# Altium schematic symbol library MiniRoverShield.SchLib: 15 symbols
Pins are listed as number, name and electrical type; pins without a type are passive.

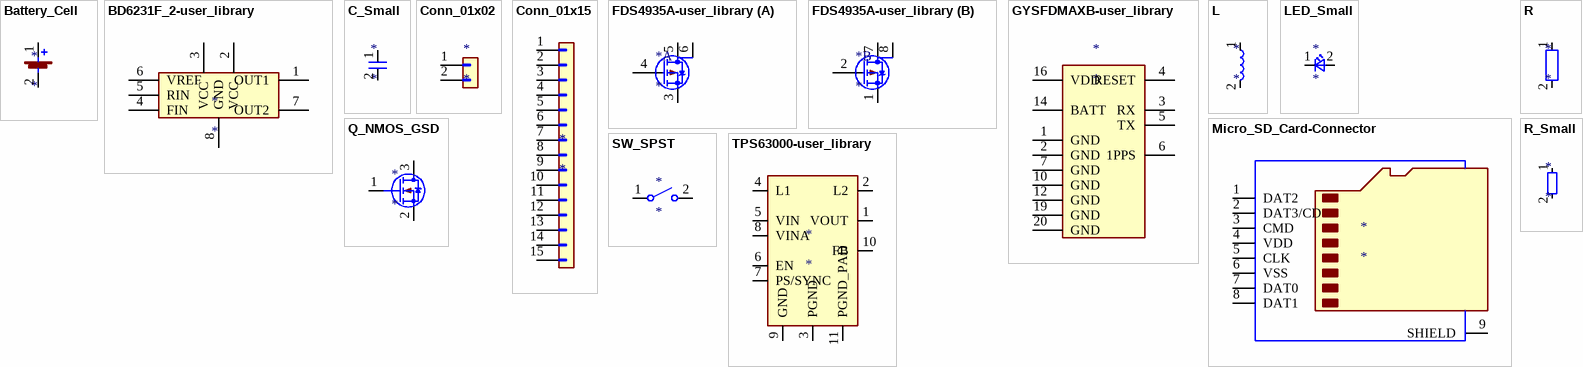
[diagram p0: symbols Battery_Cell to TPS63000-user_library]

## Battery_Cell
designator *
pins: 1 +, 2 -

## BD6231F_2-user_library
designator *
pins: 1 OUT1, 2 VCC, 3 VCC, 4 FIN, 5 RIN, 6 VREF, 7 OUT2, 8 GND

## C_Small
designator *
pins: 1, 2

## Conn_01x02
designator *
pins: 1 Pin_1, 2 Pin_2

## Conn_01x15
designator *
pins: 1 Pin_1, 2 Pin_2, 3 Pin_3, 4 Pin_4, 5 Pin_5, 6 Pin_6, 7 Pin_7, 8 Pin_8, 9 Pin_9, 10 Pin_10, 11 Pin_11, 12 Pin_12, 13 Pin_13, 14 Pin_14, 15 Pin_15

## FDS4935A-user_library
designator *
part A pins: 3 S, 4 G, 5 D, 6 D
part B pins: 1 S, 2 4G, 7 D, 8 D

## GYSFDMAXB-user_library
designator *
pins: 1 GND, 2 GND, 3 RX, 4 RESET, 5 TX, 6 1PPS, 7 GND, 10 GND, 12 GND, 14 BATT, 16 VDD, 19 GND, 20 GND

## L
designator *
pins: 1, 2

## LED_Small
designator *
pins: 1 K, 2 A

## Micro_SD_Card-Connector
designator *
pins: 1 DAT2, 2 DAT3/CD, 3 CMD, 4 VDD, 5 CLK, 6 VSS, 7 DAT0, 8 DAT1, 9 SHIELD

## Q_NMOS_GSD
designator *
pins: 1 G, 2 S, 3 D

## R
designator *
pins: 1, 2

## R_Small
designator *
pins: 1, 2

## SW_SPST
designator *
pins: 1 A, 2 B

## TPS63000-user_library
designator *
pins: 1 VOUT, 2 L2, 3 PGND, 4 L1, 5 VIN, 6 EN, 7 PS/SYNC, 8 VINA, 9 GND, 10 FB, 11 PGND_PAD